# Altium schematic symbol library STL.SchLib: 124 symbols (part 2 of 4)
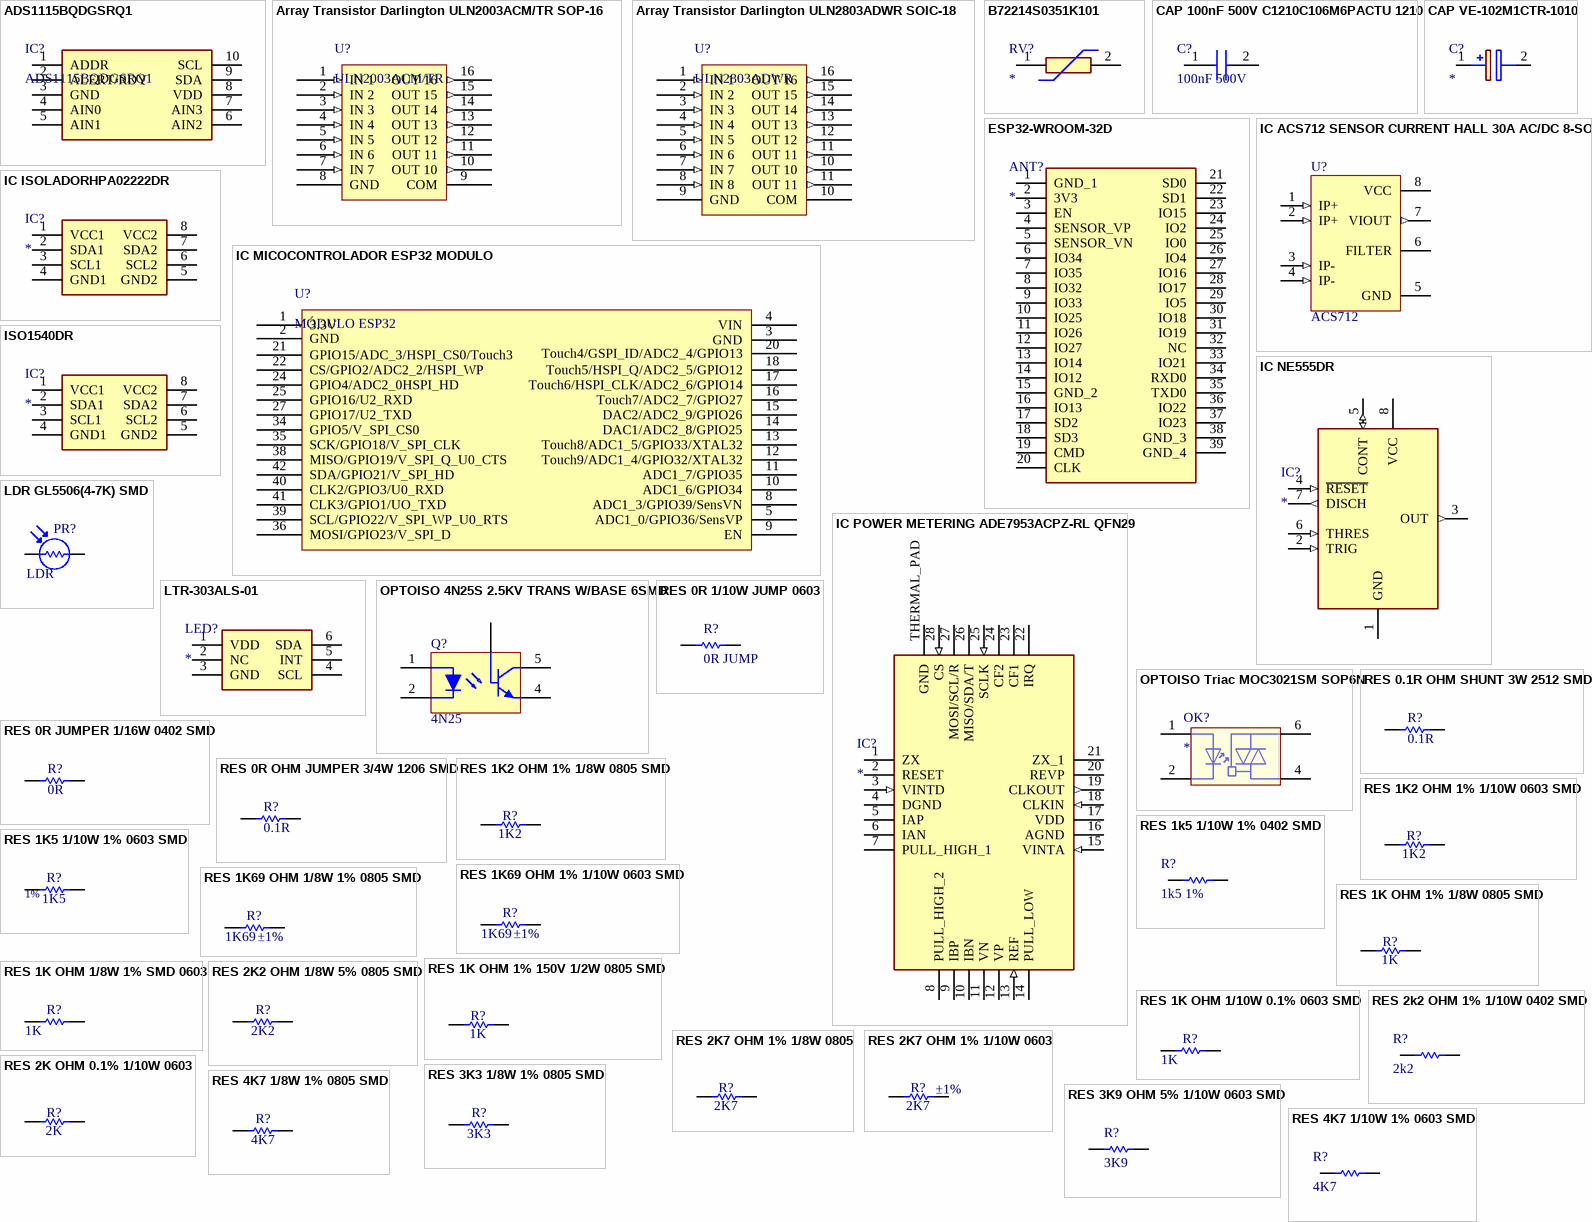
[diagram p4: symbols ADS1115BQDGSRQ1 to RES 4K7 1/10W 1% 0603 SMD]

## RES 4K7 1/8W 1% 0805 SMD
designator R?, comment 4K7
RES SMD 4.7K OHM 1% 1/8W 0805; Manufacturer: Stackpole Electronics Inc.; Manufacturer Part Number: RMCF0805FT4K70; Power (Watts): 0.125W, 1/8W; Temperature Coefficient: ±100ppm/°C; Supplier 1: Digi-Key; RoHS: RoHS Compliant; Category: Resistors; Stock 1: 62180; Pricing 1: 1=0.1, 10=0.023, 50=0.0128, 100=0.0095, 250=0.00724, 500=0.00578, 1000=0.00426, 2500=0.00369 (USD); Packaging: Cut Tape (CT); Part Status: Active; Resistance (Ohms): 4.7k; Tolerance: ±1%; Composition: Thick Film; Features: Automotive AEC-Q200; Operating Temperature: -55°C ~ 155°C; Package / Case: 0805 (2012 Metric); Supplier Device Package: 0805; Size / Dimension: 0.079" L x 0.049" W (2.00mm x 1.25mm); Height: 0.026" (0.65mm); Number of Terminations: 2; Failure Rate: -; ComponentLink1URL: https://www.seielect.com/Catalog/SEI-RMCF_RMCP.pdf; ComponentLink1Description: https://www.seielect.com/Catalog/SEI-RMCF_RMCP.pdf; Supplier Part Number 1: RMCF0805FT4K70CT-ND
footprint CR2012-0805 (Chip Capacitor)
pins: 1, 2

## RES 4K7 1/10W 1% 0603 SMD
designator R?, comment 4K7
RES 4.7K OHM 1/10W 1% 0603 SMD; Manufacturer: Stackpole Electronics Inc; Part#: RMCF0603FT4K70; eVendor: Digi-Key; eVendorPrice: 0,04; eVendor#: RMCF0603FT4K70CT-ND; MSRP: 0,00324; Datasheet: http://www.seielect.com/Catalog/SEI-RMCF_RMCP.pdf; MOQ: 2500
footprint CR1608-0603 (Chip Resistor; Body 1.6 x 0.8 mm (LxW typ))
pins: 1, 2

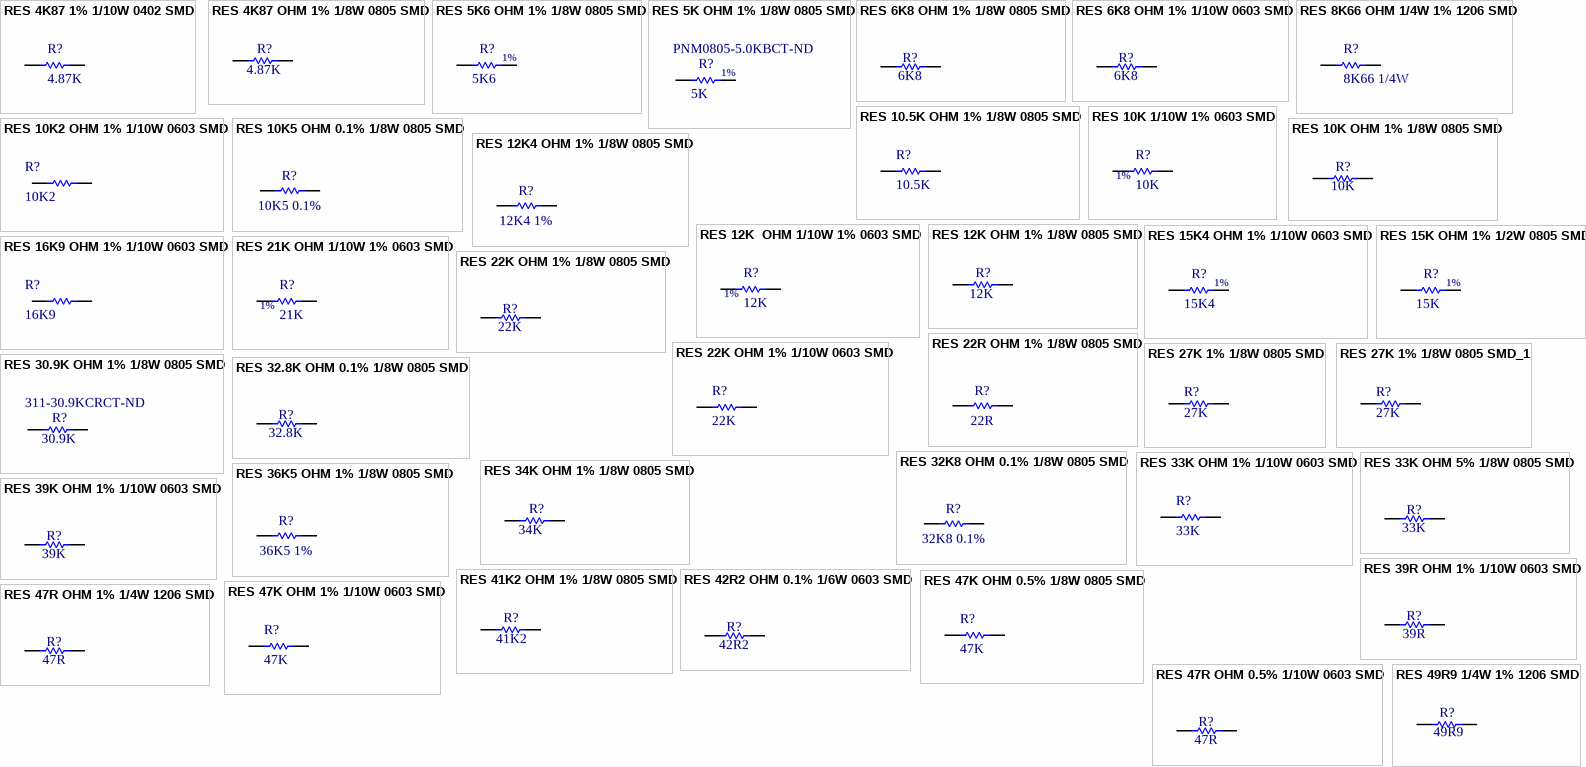
[diagram p1: symbols RES 4K87 1% 1/10W 0402 SMD to RES 49R9 1/4W 1% 1206 SMD]

## RES 4K87 1% 1/10W 0402 SMD
designator R?, comment 4.87K
RES SMD 4.87K OHM 1% 1/10W 0402; Manufacturer: Panasonic Electronic Components; Part#: ERJ-2RKF4871X; eVendor: Digi-Key; eVendorPrice: 0,10; eVendor#: P4.87KLCT-ND; MSRP: 0,00383; Datasheet: http://industrial.panasonic.com/www-cgi/jvcr13pz.cgi?E+PZ+3+AOA0002+ERJ2RKF4871X+7+WW; MOQ: 5000
footprint CR1005-0402
pins: 1, 2

## RES 4K87 OHM 1% 1/8W 0805 SMD
designator R?, comment 4.87K
RES SMD 4.87K OHM 1% 1/8W 0805; Manufacturer: Yageo; Manufacturer Part Number: RC0805FR-074K87L; Power (Watts): 0.125W, 1/8W; Temperature Coefficient: ±100ppm/°C; Supplier 1: Digi-Key; RoHS: RoHS Compliant; Category: Resistors; Stock 1: 190260; Pricing 1: 1=0.1, 10=0.019, 25=0.0136, 50=0.0104, 100=0.0077, 250=0.00584, 500=0.00468, 1000=0.00345 (USD); Packaging: Cut Tape (CT); Part Status: Active; Resistance (Ohms): 4.87k; Tolerance: ±1%; Composition: Thick Film; Features: Moisture Resistant; Operating Temperature: -55°C ~ 155°C; Package / Case: 0805 (2012 Metric); Supplier Device Package: 0805; Size / Dimension: 0.079" L x 0.049" W (2.00mm x 1.25mm); Height - Seated (Max): 0.024" (0.60mm); Number of Terminations: 2; Failure Rate: -; ComponentLink1URL: http://www.yageo.com/documents/recent/PYu-RC_Group_51_RoHS_L_6.pdf; ComponentLink1Description: http://www.yageo.com/documents/recent/PYu-RC_Group_51_RoHS_L_6.pdf; Supplier Part Number 1: 311-4.87KCRCT-ND
footprint CR2012-0805 (Chip Capacitor)
pins: 1, 2

## RES 5K6 OHM 1% 1/8W 0805 SMD
designator R?, comment 5K6
SMD CRG0805 1% 5K6; Manufacturer: TE Connectivity; Manufacturer Part Number: CRG0805F5K6; Resistance: 5.6kR; Temperature Coefficient: 100ppm/°C; Power Rating: 125mW; Number of Resistors: 1; Voltage Rating: 150V; Supplier 1: Digi-Key; RoHS: Yes; Category: Chip SMD Resistors; Stock 1: 27945; Pricing 1: 1=0,10000, 10=0,04900, 100=0,02000, 1000=0,00898, 2500=0,00780 (USD); Mount: Surface Mount; Case/Package: 0805; Case Code (Imperial): 0805; Case Code (Metric): 2012; Min Operating Temperature: -55°C; Max Operating Temperature: 125°C; Tolerance: 1%; Number of Terminations: 2; Packaging: Tape and Reel; Composition: Thick Film; Termination: Solder; Length: 2mm; Height: 0.55mm; Depth: 1.25mm; Width: 1.25mm; Radiation Hardening: No; ELV: Compliant; ComponentLink1URL: https://datasheet.ciiva.com/11809/0900766b800a696e-11809932.pdf?src-supplier=RSComponents; ComponentLink1Description: https://datasheet.ciiva.com/11809/0900766b800a696e-11809932.pdf?src-supplier=RSComponents; ComponentLink2URL: https://datasheet.ciiva.com/12563/eng-ds-1773204-g-12563327.pdf?src-supplier=Mouser; ComponentLink2Description: https://datasheet.ciiva.com/12563/eng-ds-1773204-g-12563327.pdf?src-supplier=Mouser; Supplier Part Number 1: A126380CT-ND
footprint CR2012-0805 (Chip Capacitor)
pins: 1, 2

## RES 5K OHM 1% 1/8W 0805 SMD
designator R?, comment 5K  Supplier Part Number 1: PNM0805-5.0KBCT-ND
RES SMD 5K OHM 0.01% 1/5W 0805; Manufacturer: Vishay Dale; Manufacturer Part Number: CRCW08055K00FKTA; Max Power Dissipation: 125mW; Voltage Rating (DC): 150V; Temperature Coefficient: 100ppm/°C; Resistance: 5kR; Tolerance: 1%; RoHS: Yes; Category: Chip SMD Resistors; Stock 1: 6926; Pricing 1: 1=0,14000, 10=0,12900, 100=0,04960, 1000=0,02182, 2500=0,01885 (USD); Case/Package: 0805; Number of Pins: 2; Weight: 0.000194oz; Contact Plating: Tin,Lead; Case Code (Imperial): 0805; Case Code (Metric): 2012; Min Operating Temperature: -55°C; Max Operating Temperature: 155°C; Features: Automotive AEC-Q200; Composition: Thick Film; Termination: SMD/SMT; Number of Terminations: 2; Power Rating: 125mW; Voltage Rating: 150V; Packaging: Tape and Reel; Package Quantity: 5000; Length: 0.079inch; Height: 0.02inch; Width: 1.25mm; REACH SVHC: Unknown; Lead Free: Contains Lead; ComponentLink1URL: https://datasheet.ciiva.com/7112/1747955-7112385.pdf?src-supplier=Newark; ComponentLink1Description: https://datasheet.ciiva.com/7112/1747955-7112385.pdf?src-supplier=Newark; ComponentLink2URL: https://datasheet.ciiva.com/9069/dcrcw-9069004.pdf?src-supplier=Avnet; ComponentLink2Description: https://datasheet.ciiva.com/9069/dcrcw-9069004.pdf?src-supplier=Avnet; ComponentLink3URL: https://datasheet.ciiva.com/28561/1747955-28561708.pdf?src-supplier=Element14; ComponentLink3Description: https://datasheet.ciiva.com/28561/1747955-28561708.pdf?src-supplier=Element14; Pricing 2: 1=27,09000, 10=23,66500 (USD); Stock 2: 174; ComponentLink4URL: https://datasheet.ciiva.com/2505/frsm-2505424.pdf?src-supplier=Digi-Key; ComponentLink4Description: https://datasheet.ciiva.com/2505/frsm-2505424.pdf?src-supplier=Digi-Key; Stock 3: 7440; Pricing 3: 1=2,63000, 10=2,32900, 100=1,77870 (USD); Radiation Hardening: No; ComponentLink5URL: https://datasheet.ciiva.com/22692/886349-22692838.pdf?src-supplier=Element14; ComponentLink5Description: https://datasheet.ciiva.com/22692/886349-22692838.pdf?src-supplier=Element14; ComponentLink6URL: https://datasheet.ciiva.com/7984/886349-7984655.pdf?src-supplier=Element14; ComponentLink6Description: https://datasheet.ciiva.com/7984/886349-7984655.pdf?src-supplier=Element14; Supplier 1: Digi-Key
footprint CR2012-0805 (Chip Capacitor)
pins: 1, 2

## RES 6K8 OHM 1% 1/8W 0805 SMD
designator R?, comment 6K8
RES SMD 6K8 OHM 1% 1/8W 0805; Manufacturer: Yageo Phycomp; Manufacturer Part Number: RC0805FR-076K8L; Temperature Coefficient: 100ppm/°C; Resistance: 6.8kR; Power Rating: 125mW; Voltage Rating (DC): 150V; ComponentLink1URL: https://www.seielect.com/Catalog/SEI-RMCF_RMCP.pdf; ComponentLink1Description: https://www.seielect.com/Catalog/SEI-RMCF_RMCP.pdf; Supplier 1: Digi-Key; RoHS: Yes; Category: Chip SMD Resistors; Stock 1: 3961465; Pricing 1: 1=0,10000, 10=0,04000, 100=0,01630, 1000=0,00731, 2500=0,00635 (USD); Mount: Surface Mount; Case/Package: 0805; Number of Pins: 2; Min Operating Temperature: -55°C; Max Operating Temperature: 155°C; Tolerance: 1%; Packaging: Cut Tape; Number of Terminations: 2; Working Voltage: 150V; Length: 2mm; Height: 0.5mm; Width: 1.25mm; Depth: 1.25mm; REACH SVHC: No SVHC; Lead Free: Lead Free; ComponentLink2URL: http://www.mouser.com/ds/2/447/Yageo_08112016_RC0805-968729.pdf?src-supplier=Mouser; ComponentLink2Description: http://www.mouser.com/ds/2/447/Yageo_08112016_RC0805-968729.pdf?src-supplier=Mouser; ComponentLink3URL: http://www.farnell.com/datasheets/2167052.pdf?src-supplier=Farnell; ComponentLink3Description: http://www.farnell.com/datasheets/2167052.pdf?src-supplier=Farnell; ComponentLink4URL: http://www.yageo.com/documents/recent/PYu-RC_Group_51_RoHS_L_9.pdf?src-supplier=Digi-Key; ComponentLink4Description: http://www.yageo.com/documents/recent/PYu-RC_Group_51_RoHS_L_9.pdf?src-supplier=Digi-Key; ComponentLink5URL: http://www.yageo.com/documents/recent/PYu-RC_Group_51_RoHS_L_10.pdf?src-supplier=Digi-Key; ComponentLink5Description: http://www.yageo.com/documents/recent/PYu-RC_Group_51_RoHS_L_10.pdf?src-supplier=Digi-Key; Supplier Part Number 1: 311-6.80KCRCT-ND
footprint CR2012-0805 (Chip Capacitor)
pins: 1, 2

## RES 6K8 OHM 1% 1/10W 0603 SMD
designator R?, comment 6K8
RES SMD 6.8K OHM 1% 1/10W 0603; Manufacturer: Stackpole Electronics Inc.; Manufacturer Part Number: RMCF0603FT6K80; Power (Watts): 0.1W, 1/10W; Temperature Coefficient: ±100ppm/°C; Supplier 1: Digi-Key; RoHS: RoHS Compliant; Category: Resistors; Stock 1: 95405; Pricing 1: 1=0.1, 10=0.018, 25=0.0132, 50=0.01, 100=0.0074, 250=0.00564, 500=0.0045, 1000=0.00331 (USD); Packaging: Cut Tape (CT); Part Status: Active; Resistance (Ohms): 6.8k; Tolerance: ±1%; Composition: Thick Film; Features: Automotive AEC-Q200; Operating Temperature: -55°C ~ 155°C; Package / Case: 0603 (1608 Metric); Supplier Device Package: 0603; Size / Dimension: 0.061" L x 0.031" W (1.55mm x 0.80mm); Height - Seated (Max): 0.022" (0.55mm); Number of Terminations: 2; Failure Rate: -; ComponentLink1URL: https://www.seielect.com/Catalog/SEI-RMCF_RMCP.pdf; ComponentLink1Description: https://www.seielect.com/Catalog/SEI-RMCF_RMCP.pdf; Supplier Part Number 1: RMCF0603FT6K80CT-ND
footprint CR1608-0603 (Chip Resistor; Body 1.6 x 0.8 mm (LxW typ))
pins: 1, 2

## RES 8K66 OHM 1/4W 1% 1206 SMD
designator R?, comment 8K66 1/4W
RES 8.66K OHM 1/4W 1% 1206 SMD; Manufacturer: Yageo; Part#: RC1206FR-078K66L; eVendor: Digi-Key; eVendorPrice: 0,10; eVendor#: 311-8.66KFRCT-ND; MSRP: 0,00514; Datasheet: http://www.yageo.com/documents/recent/PYu-RC1206_51_RoHS_L-4.pdf; MOQ: 2500
footprint CR3216-1206 (Chip Capacitor; Body 3.2 x 1.6 mm (LxW typ))
pins: 1, 2

## RES 10.5K OHM 1% 1/8W 0805 SMD
designator R?, comment 10.5K
RES SMD 10.5K OHM 1% 1/8W 0805; Manufacturer: Panasonic; Manufacturer Part Number: ERJ-6ENF1052V; Resistance: 10.5kR; Power Rating: 125mW; Voltage Rating: 150V; Temperature Coefficient: 100ppm/°C; Supplier 1: Digi-Key; RoHS: Yes; Category: Chip SMD Resistors; Stock 1: 54240; Pricing 1: 1=0,10000, 10=0,07200, 100=0,02750, 1000=0,01210, 2500=0,01045 (USD); Mount: Surface Mount; Case/Package: 0805; Case Code (Metric): 2012; Case Code (Imperial): 0805; Contact Plating: Tin; Min Operating Temperature: -55°C; Max Operating Temperature: 155°C; Tolerance: 1%; Package Quantity: 5000; Packaging: Tape and Reel; Voltage Rating (DC): 150V; Features: Automotive AEC-Q200; Composition: Thick Film; Number of Terminations: 2; Military Standard: Not; Max Power Dissipation: 125mW; Termination: SMD/SMT; Length: 2mm; Height: 0.6mm; Width: 0.049inch; Depth: 1.25mm; Height - Seated (Max): 0.028inch; Lead Free: Lead Free; REACH SVHC: No SVHC; ComponentLink1URL: https://datasheet.ciiva.com/11821/0900766b80f80784-11821503.pdf?src-supplier=RSComponents; ComponentLink1Description: https://datasheet.ciiva.com/11821/0900766b80f80784-11821503.pdf?src-supplier=RSComponents; ComponentLink2URL: https://datasheet.ciiva.com/16759/70260748-16759239.pdf?src-supplier=Allied+Electronics; ComponentLink2Description: https://datasheet.ciiva.com/16759/70260748-16759239.pdf?src-supplier=Allied+Electronics; ComponentLink3URL: https://datasheet.ciiva.com/16767/70260748-16767017.pdf?src-supplier=Allied+Electronics; ComponentLink3Description: https://datasheet.ciiva.com/16767/70260748-16767017.pdf?src-supplier=Allied+Electronics; ComponentLink4URL: https://datasheet.ciiva.com/30137/aoa0000ce2-30137207.pdf?src-supplier=Onlinecomponents.com; ComponentLink4Description: https://datasheet.ciiva.com/30137/aoa0000ce2-30137207.pdf?src-supplier=Onlinecomponents.com; ComponentLink5URL: https://datasheet.ciiva.com/9194/aoa0000ce2-9194056.pdf?src-supplier=Avnet; ComponentLink5Description: https://datasheet.ciiva.com/9194/aoa0000ce2-9194056.pdf?src-supplier=Avnet; ComponentLink6URL: https://datasheet.ciiva.com/24069/aoa0000ce2-24069034.pdf?src-supplier=Mouser; ComponentLink6Description: https://datasheet.ciiva.com/24069/aoa0000ce2-24069034.pdf?src-supplier=Mouser; ComponentLink7URL: https://datasheet.ciiva.com/46444/1678782-46444445.pdf?src-supplier=Element14; ComponentLink7Description: https://datasheet.ciiva.com/46444/1678782-46444445.pdf?src-supplier=Element14; ComponentLink8URL: https://datasheet.ciiva.com/7829/1678782-7829327.pdf?src-supplier=Element14; ComponentLink8Description: https://datasheet.ciiva.com/7829/1678782-7829327.pdf?src-supplier=Element14; Supplier Part Number 1: P10.5KCCT-ND
footprint CR2012-0805 (Chip Capacitor)
pins: 1, 2

## RES 10K2 OHM 1% 1/10W 0603 SMD
designator R?, comment 10K2
RES SMD 10.2K OHM 1% 1/10W 0603; Manufacturer: Yageo; Manufacturer Part Number: RC0603FR-0710K2L; Power (Watts): 0.1W, 1/10W; Temperature Coefficient: ±100ppm/°C; Supplier 1: Digi-Key; RoHS: RoHS Compliant; Category: Resistors; Stock 1: 111714; Pricing 1: 1=0.1, 10=0.014, 25=0.01, 100=0.0057, 250=0.00436, 500=0.00348, 1000=0.00257, 2500=0.00223 (USD); Packaging: Cut Tape (CT); Resistance (Ohms): 10.2k; Tolerance: ±1%; Composition: Thick Film; Features: Moisture Resistant; Operating Temperature: -55°C ~ 155°C; Package / Case: 0603 (1608 Metric); Supplier Device Package: 0603; Size / Dimension: 0.063" L x 0.031" W (1.60mm x 0.80mm); Height: 0.022" (0.55mm); Number of Terminations: 2; ComponentLink1URL: http://www.yageo.com/documents/recent/PYu-RC_Group_51_RoHS_L_04.pdf; ComponentLink1Description: http://www.yageo.com/documents/recent/PYu-RC_Group_51_RoHS_L_04.pdf; Supplier Part Number 1: 311-10.2KHRCT-ND
footprint CR1608-0603 (Chip Resistor; Body 1.6 x 0.8 mm (LxW typ))
pins: 1, 2

## RES 10K5 OHM 0.1% 1/8W 0805 SMD
designator R?, comment 10K5 0.1%
RES SMD 10.5K OHM 0.1% 1/8W 0805; Manufacturer: Panasonic Electronic Components; Manufacturer Part Number: ERA-6AEB1052V; Power (Watts): 0.125W, 1/8W; Temperature Coefficient: ±25ppm/°C; Supplier 1: Digi-Key; RoHS: RoHS Compliant; Category: Resistors; Stock 1: 1614; Pricing 1: 1=0.63, 50=0.2494, 100=0.1924, 250=0.14964, 500=0.10546, 1000=0.07695 (USD); Packaging: Cut Tape (CT); Part Status: Active; Resistance (Ohms): 10.5k; Tolerance: ±0.1%; Composition: Thin Film; Features: Automotive AEC-Q200; Operating Temperature: -55°C ~ 155°C; Package / Case: 0805 (2012 Metric); Supplier Device Package: 0805; Size / Dimension: 0.079" L x 0.049" W (2.00mm x 1.25mm); Height: 0.024" (0.60mm); Number of Terminations: 2; ComponentLink1URL: http://media.digikey.com/pdf/Data%20Sheets/Panasonic%20Electronic%20Components/ERA%201A,2A,3A,6A,8A.pdf; ComponentLink1Description: http://media.digikey.com/pdf/Data%20Sheets/Panasonic%20Electronic%20Components/ERA%201A,2A,3A,6A,8A.pdf; Supplier Part Number 1: P10.5KDACT-ND
footprint CR2012-0805 (Chip Capacitor)
pins: 1, 2

## RES 10K 1/10W 1% 0603 SMD
designator R?, comment 10K
RES 10K OHM 1/10W 1% 0603 SMD; Manufacturer: Yageo; Manufacturer Part Number: RC0603FR-0710KL; Power (Watts): 0.1W, 1/10W; Temperature Coefficient: ±100ppm/°C; RoHS: RoHS Compliant; Category: Resistors; Stock 1: 17789030; Pricing 1: 1=0.1, 10=0.013, 25=0.0092, 50=0.007, 100=0.0052, 250=0.00396, 500=0.00316, 1000=0.00233 (USD); Packaging: Cut Tape (CT); Part Status: Active; Resistance (Ohms): 10k; Tolerance: ±1%; Composition: Thick Film; Features: Moisture Resistant; Operating Temperature: -55°C ~ 155°C; Package / Case: 0603 (1608 Metric); Supplier Device Package: 0603; Size / Dimension: 0.063" L x 0.031" W (1.60mm x 0.80mm); Height - Seated (Max): 0.022" (0.55mm); Failure Rate: -; ComponentLink1URL: http://www.yageo.com/documents/recent/PYu-RC_Group_51_RoHS_L_7.pdf; ComponentLink1Description: http://www.yageo.com/documents/recent/PYu-RC_Group_51_RoHS_L_7.pdf; Supplier 1: Digi-Key; Supplier 2: LCSC; Supplier Part Number 1: 311-10.0KHRCT-ND; Supplier Part Number 2: C25804
footprint CR1608-0603 (Footprint not found)
pins: 1, 2
text: 1%

## RES 10K OHM 1% 1/8W 0805 SMD
designator R?, comment 10K
RES 0805 10K Ohm 0.1% 1/10W  SMD; Manufacturer: Panasonic Electronic Components; Manufacturer Part Number: ERJ-6ENF1002V; Tolerance: ±1%; Power (Watts): 0.125W, 1/8W; Temperature Coefficient: ±100ppm/°C; Resistance: 10kR; Power Rating: 100mW; Voltage Rating (DC): 150V; Max Power Dissipation: 125mW; Number of Resistors: 1; RoHS: RoHS Compliant; Category: Resistors; Stock 1: 2392770; Pricing 1: 1=0.1, 10=0.036, 25=0.0264, 50=0.02, 100=0.0148, 250=0.01124, 500=0.009, 1000=0.00663 (USD); Packaging: Cut Tape (CT); Part Status: Active; Resistance (Ohms): 10k; Composition: Thick Film; Features: Automotive AEC-Q200; Operating Temperature: -55°C ~ 155°C; Package / Case: 0805 (2012 Metric); Supplier Device Package: 0805; Size / Dimension: 0.079" L x 0.049" W (2.00mm x 1.25mm); Height - Seated (Max): 0.028" (0.70mm); Number of Terminations: 2; Failure Rate: -; ComponentLink1URL: https://industrial.panasonic.com/cdbs/www-data/pdf/RDA0000/AOA0000C283.pdf; ComponentLink1Description: https://industrial.panasonic.com/cdbs/www-data/pdf/RDA0000/AOA0000C283.pdf; Stock 2: 1650; Pricing 2: 1=1,68000, 10=1,48900, 100=1,13720, 1000=0,73645 (USD); Mount: Surface Mount; Case/Package: 0805; Number of Pins: 2; Case Code (Metric): 2012; Case Code (Imperial): 0805; Contact Plating: Tin; Min Operating Temperature: -55°C; Max Operating Temperature: 155°C; Voltage Rating: 150V; Package Quantity: 5000; Termination: SMD/SMT; Military Standard: Not; Working Voltage: 150V; Length: 2mm; Height: 0.6mm; Width: 0.049inch; Depth: 1.25mm; Radiation Hardening: No; REACH SVHC: No SVHC; Lead Free: Lead Free; ComponentLink2URL: https://datasheet.ciiva.com/11808/0900766b80f80784-11808080.pdf?src-supplier=RSComponents; ComponentLink2Description: https://datasheet.ciiva.com/11808/0900766b80f80784-11808080.pdf?src-supplier=RSComponents; ComponentLink3URL: https://datasheet.ciiva.com/16514/aoa0000ce2-16514021.pdf?src-supplier=Avnet+Asia; ComponentLink3Description: https://datasheet.ciiva.com/16514/aoa0000ce2-16514021.pdf?src-supplier=Avnet+Asia; ComponentLink4URL: https://datasheet.ciiva.com/27055/1988971-27055733.pdf?src-supplier=Jameco; ComponentLink4Description: https://datasheet.ciiva.com/27055/1988971-27055733.pdf?src-supplier=Jameco; ComponentLink5URL: https://datasheet.ciiva.com/16759/70260748-16759350.pdf?src-supplier=Allied+Electronics; ComponentLink5Description: https://datasheet.ciiva.com/16759/70260748-16759350.pdf?src-supplier=Allied+Electronics; ComponentLink6URL: https://datasheet.ciiva.com/16725/70260748-16725031.pdf?src-supplier=Allied+Electronics; ComponentLink6Description: https://datasheet.ciiva.com/16725/70260748-16725031.pdf?src-supplier=Allied+Electronics; ComponentLink7URL: https://datasheet.ciiva.com/46372/1678782-46372714.pdf?src-supplier=Element14; ComponentLink7Description: https://datasheet.ciiva.com/46372/1678782-46372714.pdf?src-supplier=Element14; ComponentLink8URL: https://datasheet.ciiva.com/46372/1678782-46372715.pdf?src-supplier=Element14; ComponentLink8Description: https://datasheet.ciiva.com/46372/1678782-46372715.pdf?src-supplier=Element14; ComponentLink9URL: https://datasheet.ciiva.com/7830/426256-7830745.pdf?src-supplier=Element14; ComponentLink9Description: https://datasheet.ciiva.com/7830/426256-7830745.pdf?src-supplier=Element14; ComponentLink10URL: https://datasheet.ciiva.com/17212/aoa0000ce2-17212108.pdf?src-supplier=Avnet+Europe; ComponentLink10Description: https://datasheet.ciiva.com/17212/aoa0000ce2-17212108.pdf?src-supplier=Avnet+Europe; ComponentLink11URL: https://datasheet.ciiva.com/30140/aoa0000ce2-30140236.pdf?src-supplier=Onlinecomponents.com; ComponentLink11Description: https://datasheet.ciiva.com/30140/aoa0000ce2-30140236.pdf?src-supplier=Onlinecomponents.com; ComponentLink12URL: https://datasheet.ciiva.com/24070/aoa0000ce2-24070702.pdf?src-supplier=Mouser; ComponentLink12Description: https://datasheet.ciiva.com/24070/aoa0000ce2-24070702.pdf?src-supplier=Mouser; ELV: Compliant; ComponentLink13URL: https://datasheet.ciiva.com/16723/70063741-16723029.pdf?src-supplier=Allied+Electronics; ComponentLink13Description: https://datasheet.ciiva.com/16723/70063741-16723029.pdf?src-supplier=Allied+Electronics; ComponentLink14URL: https://datasheet.ciiva.com/24440/eng-ds-1773270-l-24440188.pdf?src-supplier=Onlinecomponents.com; ComponentLink14Description: https://datasheet.ciiva.com/24440/eng-ds-1773270-l-24440188.pdf?src-supplier=Onlinecomponents.com; ComponentLink15URL: https://datasheet.ciiva.com/7731/eng-ds-1773270-l-7731311.pdf?src-supplier=Element14; ComponentLink15Description: https://datasheet.ciiva.com/7731/eng-ds-1773270-l-7731311.pdf?src-supplier=Element14; ComponentLink16URL: https://datasheet.ciiva.com/14181/jcrn73-data-e-14181423.pdf?src-supplier=Distrelec; ComponentLink16Description: https://datasheet.ciiva.com/14181/jcrn73-data-e-14181423.pdf?src-supplier=Distrelec; Supplier 1: Digi-Key; Supplier Part Number 1: A105823-ND; Supplier 2: Digi-Key; Supplier Part Number 2: P10KACT-ND; Resistance Tolerance: 0.1%; Resistor Type: Thin Film; Supplier 3: LCSC; Supplier Part Number 3: C17414
footprint CR2012-0805 (Chip Capacitor)
pins: 1, 2

## RES 12K4 OHM 1% 1/8W 0805 SMD
designator R?, comment 12K4 1%
RES SMD 12.4K OHM 1% 1/8W 0805; Manufacturer: Panasonic Electronic Components; Manufacturer Part Number: ERJ-6ENF1242V; Power (Watts): 0.125W, 1/8W; Temperature Coefficient: ±100ppm/°C; Supplier 1: Digi-Key; RoHS: RoHS Compliant; Category: Resistors; Stock 1: 55334; Pricing 1: 1=0.1, 50=0.022, 100=0.0162, 250=0.01236, 500=0.0099, 1000=0.00729 (USD); Packaging: Cut Tape (CT); Resistance (Ohms): 12.4k; Composition: Thick Film; Features: Automotive AEC-Q200; Operating Temperature: -55°C ~ 155°C; Package / Case: 0805 (2012 Metric); Supplier Device Package: 0805; Size / Dimension: 0.079" L x 0.049" W (2.00mm x 1.25mm); Height: 0.028" (0.70mm); Number of Terminations: 2; ComponentLink1URL: http://industrial.panasonic.com/www-cgi/jvcr13pz.cgi?E+PZ+3+AOA0002+ERJ6ENF1242V+7+WW; ComponentLink1Description: http://industrial.panasonic.com/www-cgi/jvcr13pz.cgi?E+PZ+3+AOA0002+ERJ6ENF1242V+7+WW; Supplier Part Number 1: P12.4KCCT-ND; Tolerance: ±1%
footprint CR2012-0805 (Chip Capacitor)
pins: 1, 2

## RES 12K  OHM 1/10W 1% 0603 SMD
designator R?, comment 12K
Resistor;  Thick Film;  Res 12 Kilohms;  Pwr-Rtg 0.1 W;  Tol 5%;  SMT;  0603;  Cut Tape; Manufacturer: Uniroyal; Manufacturer Part Number: 0603WAF1202T5E; Resistance: 12kR; Temperature Coefficient: 200ppm/°C; Power Rating: 100mW; Voltage Rating: 75V; Voltage Rating (DC): 50V; ComponentLink1URL: http://www.yageo.com/documents/recent/PYu-RC_Group_51_RoHS_L_7.pdf; ComponentLink1Description: http://www.yageo.com/documents/recent/PYu-RC_Group_51_RoHS_L_7.pdf; RoHS: No; Category: Chip SMD Resistors; Stock 2: 3400; Pricing 2: 50=0,00790, 500=0,00590, 1500=0,00560, 5000=0,00520, 25000=0,00510, 50000=0,00500, 50=0,00760, 500=0,00570, 1500=0,00540, 5000=0,00500, 25000=0,00490, 50000=0,00480, 50=0,03920, 500=0,02940, 1500=0,02810, 5000=0,02620, 25000=0,02550, 50000=0,02490, 50=0,03780, 500=0,02840, 1500=0,02710, 5000=0,02520, 25000=0,02460, 50000=0,02400, 50=0,00510, 500=0,00380, 1500=0,00360, 5000=0,00340, 25000=0,00330, 50000=0,00320, 50=0,00440, 500=0,00330, 1500=0,00310, 5000=0,00290, 25000=0,00280, 50000=0,00280, 50=0,04660, 500=0,03500, 1500=0,03340, 5000=0,03110, 25000=0,03030, 50000=0,02950, 50=0,65770, 500=0,49330, 1500=0,47130, 5000=0,43850, 25000=0,42750, 50000=0,41650, 50=0,02490, 500=0,01870, 1500=0,01780, 5000=0,01660, 25000=0,01620, 50000=0,01580, 50=0,45610, 500=0,34210, 1500=0,32690, 5000=0,30410, 25000=0,29650, 50000=0,28890, 50=0,05180, 500=0,03890, 1500=0,03720, 5000=0,03460, 25000=0,03370, 50000=0,03280, 50=0,00810, 500=0,00610, 1500=0,00580, 5000=0,00540, 25000=0,00520, 50000=0,00510, 50=0,00600, 500=0,00450, 1500=0,00430, 5000=0,00400, 25000=0,00390, 50000=0,00380 (AUD); Mount: Surface Mount; Case/Package: 0603; Case Code (Imperial): 0603; Case Code (Metric): 1608; Contact Plating: Tin; Weight: 0.0018lb; Size Code: 0603; Min Operating Temperature: -55°C; Max Operating Temperature: 155°C; Packaging: Tape and Reel; Resistor Type: Thick Film; Series: ERJ; Tolerance: 5%; Number of Terminations: 2; Max Power Dissipation: 100mW; Package Quantity: 1; Termination: SMD/SMT; Features: Automotive AEC-Q200; Construction: Rectangular; Resistance Tolerance: 5%; Technology: THICK FILM; Length: 1.6mm; Width: 0.8mm; Height: 0.45mm; Depth: 0.8mm; Radiation Hardening: No; RoHS Compliant: Yes; Lead Free: Lead Free; Military Standard: Not; REACH SVHC: No SVHC; ComponentLink2URL: https://datasheet.ciiva.com/34303/1988532-34303610.pdf?src-supplier=Jameco; ComponentLink2Description: https://datasheet.ciiva.com/34303/1988532-34303610.pdf?src-supplier=Jameco; ComponentLink3URL: https://datasheet.ciiva.com/11821/0900766b80f806dd-11821411.pdf?src-supplier=RSComponents; ComponentLink3Description: https://datasheet.ciiva.com/11821/0900766b80f806dd-11821411.pdf?src-supplier=RSComponents; ComponentLink4URL: https://datasheet.ciiva.com/9117/aoa0000ce1-9117062.pdf?src-supplier=Avnet; ComponentLink4Description: https://datasheet.ciiva.com/9117/aoa0000ce1-9117062.pdf?src-supplier=Avnet; ComponentLink5URL: https://datasheet.ciiva.com/16514/aoa0000ce1-16514215.pdf?src-supplier=Avnet+Asia; ComponentLink5Description: https://datasheet.ciiva.com/16514/aoa0000ce1-16514215.pdf?src-supplier=Avnet+Asia; ComponentLink6URL: https://datasheet.ciiva.com/24023/aoa0000ce1-37422-24023237.pdf?src-supplier=Mouser; ComponentLink6Description: https://datasheet.ciiva.com/24023/aoa0000ce1-37422-24023237.pdf?src-supplier=Mouser; ComponentLink7URL: https://datasheet.ciiva.com/30265/4aoa0000ce1-30265398.pdf?src-supplier=Onlinecomponents.com; ComponentLink7Description: https://datasheet.ciiva.com/30265/4aoa0000ce1-30265398.pdf?src-supplier=Onlinecomponents.com; ComponentLink8URL: https://datasheet.ciiva.com/17211/aoa0000ce1-17211800.pdf?src-supplier=Avnet+Europe; ComponentLink8Description: https://datasheet.ciiva.com/17211/aoa0000ce1-17211800.pdf?src-supplier=Avnet+Europe; ComponentLink9URL: https://datasheet.ciiva.com/16437/aoa0000ce1-16437817.pdf?src-supplier=Future+Electronics; ComponentLink9Description: https://datasheet.ciiva.com/16437/aoa0000ce1-16437817.pdf?src-supplier=Future+Electronics; ComponentLink10URL: https://datasheet.ciiva.com/28590/1678796-28590971.pdf?src-supplier=Element14; ComponentLink10Description: https://datasheet.ciiva.com/28590/1678796-28590971.pdf?src-supplier=Element14; ComponentLink11URL: https://datasheet.ciiva.com/16782/70255313-16782319.pdf?src-supplier=Allied+Electronics; ComponentLink11Description: https://datasheet.ciiva.com/16782/70255313-16782319.pdf?src-supplier=Allied+Electronics; ComponentLink12URL: https://datasheet.ciiva.com/16775/70255313-16775998.pdf?src-supplier=Allied+Electronics; ComponentLink12Description: https://datasheet.ciiva.com/16775/70255313-16775998.pdf?src-supplier=Allied+Electronics; Supplier 1: LCSC; Supplier 2: LCSC; Supplier Part Number 2: C403421; Supplier Part Number 1: C22790
footprint CR1608-0603 (Chip Resistor; Body 1.6 x 0.8 mm (LxW typ))
pins: 1, 2
text: 1%

## RES 12K OHM 1% 1/8W 0805 SMD
designator R?, comment 12K
RES SMD 12K OHM 1% 1/8W 0805; Manufacturer: Panasonic Electronic Components; Manufacturer Part Number: ERJ-6ENF1202V; Power (Watts): 0.125W, 1/8W; Temperature Coefficient: ±100ppm/°C; Supplier 1: Digi-Key; RoHS: RoHS Compliant; Category: Resistors; Stock 1: 52615; Pricing 1: 1=0.1, 10=0.036, 25=0.0264, 50=0.02, 100=0.0148, 250=0.01124, 500=0.009, 1000=0.00663 (USD); Packaging: Cut Tape (CT); Part Status: Active; Resistance (Ohms): 12k; Tolerance: ±1%; Composition: Thick Film; Features: Automotive AEC-Q200; Operating Temperature: -55°C ~ 155°C; Package / Case: 0805 (2012 Metric); Supplier Device Package: 0805; Size / Dimension: 0.079" L x 0.049" W (2.00mm x 1.25mm); Height - Seated (Max): 0.028" (0.70mm); Number of Terminations: 2; Failure Rate: -; ComponentLink1URL: https://industrial.panasonic.com/cdbs/www-data/pdf/RDA0000/AOA0000C283.pdf; ComponentLink1Description: https://industrial.panasonic.com/cdbs/www-data/pdf/RDA0000/AOA0000C283.pdf; Supplier Part Number 1: P12.0KCCT-ND
footprint CR2012-0805 (Chip Capacitor)
pins: 1, 2

## RES 15K4 OHM 1% 1/10W 0603 SMD
designator R?, comment 15K4
RES SMD 15.4K OHM 1% 1/10W 0603; Manufacturer: Yageo; Manufacturer Part Number: RC0603FR-0715K4L; Power (Watts): 0.1W, 1/10W; Temperature Coefficient: ±100ppm/°C; Supplier 1: Digi-Key; RoHS: RoHS Compliant; Category: Resistors; Stock 1: 168640; Pricing 1: 1=0.1, 10=0.014, 25=0.01, 100=0.0057, 250=0.00436, 500=0.00348, 1000=0.00257, 2500=0.00223 (USD); Packaging: Cut Tape (CT); Part Status: Active; Resistance (Ohms): 15.4k; Tolerance: ±1%; Composition: Thick Film; Features: Moisture Resistant; Operating Temperature: -55°C ~ 155°C; Package / Case: 0603 (1608 Metric); Supplier Device Package: 0603; Size / Dimension: 0.063" L x 0.031" W (1.60mm x 0.80mm); Height: 0.022" (0.55mm); Number of Terminations: 2; ComponentLink1URL: http://www.yageo.com/documents/recent/PYu-RC_Group_51_RoHS_L_04.pdf; ComponentLink1Description: http://www.yageo.com/documents/recent/PYu-RC_Group_51_RoHS_L_04.pdf; Supplier Part Number 1: 311-15.4KHRCT-ND
footprint CR1608-0603 (Chip Resistor; Body 1.6 x 0.8 mm (LxW typ))
pins: 1, 2
text: 1%

## RES 15K OHM 1% 1/2W 0805 SMD
designator R?, comment 15K
RES SMD 15 kohm   1% 1/2W 0805; Manufacturer: Panasonic; Manufacturer Part Number: ERJ-P6WF1502V; Resistance: 15kR; Power Rating: 500mW; Voltage Rating: 150V; Temperature Coefficient: 200ppm/°C; ComponentLink1URL: http://www.yageo.com/documents/recent/PYu-RC_Group_51_RoHS_L_04.pdf; ComponentLink1Description: http://www.yageo.com/documents/recent/PYu-RC_Group_51_RoHS_L_04.pdf; Supplier 1: Digi-Key; RoHS: Yes; Category: Chip SMD Resistors; Stock 1: 4979; Pricing 1: 1=0,54000, 10=0,41200, 100=0,17310, 1000=0,09552, 2500=0,08955 (USD); Case/Package: 0805; Case Code (Metric): 2012; Case Code (Imperial): 0805; Contact Plating: Tin; Min Operating Temperature: -55°C; Max Operating Temperature: 155°C; Tolerance: 1%; Packaging: Cut Tape; Composition: Thick Film; Voltage Rating (DC): 150V; Termination: Flat; Number of Terminations: 2; Max Power Dissipation: 500mW; Features: Automotive AEC-Q200; Length: 0.079inch; Height: 0.03inch; Width: 0.049inch; Depth: 1.25mm; REACH SVHC: No SVHC; ComponentLink2URL: https://datasheet.ciiva.com/48525/erjp-series-eng-tds-48525477.pdf?src-supplier=Distrelec; ComponentLink2Description: https://datasheet.ciiva.com/48525/erjp-series-eng-tds-48525477.pdf?src-supplier=Distrelec; Supplier Part Number 1: P16899CT-ND
footprint CR2012-0805 (Chip Capacitor)
pins: 1, 2

## RES 16K9 OHM 1% 1/10W 0603 SMD
designator R?, comment 16K9
RES SMD 16.9K OHM 1% 1/10W 0603; Manufacturer: Yageo; Manufacturer Part Number: RC0603FR-0716K9L; Power (Watts): 0.1W, 1/10W; Temperature Coefficient: ±100ppm/°C; Supplier 1: Digi-Key; RoHS: RoHS Compliant; Category: Resistors; Stock 1: 52478; Pricing 1: 1=0.1, 10=0.014, 25=0.01, 100=0.0057, 250=0.00436, 500=0.00348, 1000=0.00257, 2500=0.00223 (USD); Packaging: Cut Tape (CT); Resistance (Ohms): 16.9k; Tolerance: ±1%; Composition: Thick Film; Features: Moisture Resistant; Operating Temperature: -55°C ~ 155°C; Package / Case: 0603 (1608 Metric); Supplier Device Package: 0603; Size / Dimension: 0.063" L x 0.031" W (1.60mm x 0.80mm); Height: 0.022" (0.55mm); Number of Terminations: 2; ComponentLink1URL: http://www.yageo.com/documents/recent/PYu-RC_Group_51_RoHS_L_04.pdf; ComponentLink1Description: http://www.yageo.com/documents/recent/PYu-RC_Group_51_RoHS_L_04.pdf; Supplier Part Number 1: 311-16.9KHRCT-ND
footprint CR1608-0603 (Chip Resistor; Body 1.6 x 0.8 mm (LxW typ))
pins: 1, 2

## RES 21K OHM 1/10W 1% 0603 SMD
designator R?, comment 21K
21K Ohm 1% 0.1W(1/10W)  SMD; Manufacturer: Bourns; Manufacturer Part Number: CR0603-FX-2102ELF; Resistance: 21kR; Temperature Coefficient: 100ppm/°C; Max Power Dissipation: 100mW; Voltage Rating: 50V; Supplier 1: LCSC; RoHS: Yes; Category: Chip SMD Resistors; Stock 1: 23550; Pricing 1: 50=0,00770, 500=0,00600, 1500=0,00580, 5000=0,00540, 25000=0,00520, 50000=0,00520, 50=0,00740, 500=0,00580, 1500=0,00550, 5000=0,00520, 25000=0,00500, 50000=0,00500, 50=0,03860, 500=0,03010, 1500=0,02880, 5000=0,02680, 25000=0,02620, 50000=0,02620, 50=0,03720, 500=0,02900, 1500=0,02770, 5000=0,02590, 25000=0,02520, 50000=0,02520, 50=0,00500, 500=0,00390, 1500=0,00370, 5000=0,00350, 25000=0,00340, 50000=0,00340, 50=0,00430, 500=0,00330, 1500=0,00320, 5000=0,00300, 25000=0,00290, 50000=0,00290, 50=0,04580, 500=0,03570, 1500=0,03420, 5000=0,03190, 25000=0,03110, 50000=0,03110, 50=0,64670, 500=0,50420, 1500=0,48230, 5000=0,44940, 25000=0,43850, 50000=0,43850, 50=0,02450, 500=0,01910, 1500=0,01820, 5000=0,01700, 25000=0,01660, 50000=0,01660, 50=0,44850, 500=0,34970, 1500=0,33450, 5000=0,31170, 25000=0,30410, 50000=0,30410, 50=0,05100, 500=0,03970, 1500=0,03800, 5000=0,03540, 25000=0,03460, 50000=0,03460, 50=0,00790, 500=0,00620, 1500=0,00590, 5000=0,00550, 25000=0,00540, 50000=0,00540, 50=0,00590, 500=0,00460, 1500=0,00440, 5000=0,00410, 25000=0,00400, 50000=0,00400 (AUD); Mount: Surface Mount; Case/Package: 0603; Case Code (Imperial): 0603; Case Code (Metric): 1608; Contact Plating: Tin; Min Operating Temperature: -55°C; Max Operating Temperature: 155°C; Tolerance: 1%; Packaging: Tape and Reel; Number of Terminations: 2; Resistor Type: Thick Film; Series: CR0603; Features: Moisture Resistant; Package Quantity: 5000; Power Rating: 100mW; Termination: SMD/SMT; Construction: Rectangular; Length: 1.6mm; Width: 0.8mm; Height: 0.022inch; Depth: 0.8mm; Thickness: 457um; Radiation Hardening: No; Military Standard: Not; ComponentLink1URL: https://datasheet.ciiva.com/9121/chpreztr-9121901.pdf?src-supplier=Avnet; ComponentLink1Description: https://datasheet.ciiva.com/9121/chpreztr-9121901.pdf?src-supplier=Avnet; ComponentLink2URL: https://datasheet.ciiva.com/14986/chpreztr-14986591.pdf?src-supplier=Digi-Key; ComponentLink2Description: https://datasheet.ciiva.com/14986/chpreztr-14986591.pdf?src-supplier=Digi-Key; ComponentLink3URL: https://datasheet.ciiva.com/5586/chpreztr-5586573.pdf?src-supplier=Mouser; ComponentLink3Description: https://datasheet.ciiva.com/5586/chpreztr-5586573.pdf?src-supplier=Mouser; Supplier Part Number 1: C203401
footprint CR1608-0603 (Chip Resistor; Body 1.6 x 0.8 mm (LxW typ))
pins: 1, 2

## RES 22K OHM 1% 1/8W 0805 SMD
designator R?, comment 22K
RES SMD 22K OHM 1% 1/8W 0805; Manufacturer: Panasonic Electronic Components; Manufacturer Part Number: ERJ-6ENF2202V; Power (Watts): 0.125W, 1/8W; Temperature Coefficient: ±100ppm/°C; Supplier 1: Digi-Key; RoHS: RoHS Compliant; Category: Resistors; Stock 1: 26406; Pricing 1: 1=0.1, 10=0.036, 25=0.0264, 50=0.02, 100=0.0148, 250=0.01124, 500=0.009, 1000=0.00663 (USD); Packaging: Cut Tape (CT); Part Status: Active; Resistance (Ohms): 22k; Tolerance: ±1%; Composition: Thick Film; Features: Automotive AEC-Q200; Operating Temperature: -55°C ~ 155°C; Package / Case: 0805 (2012 Metric); Supplier Device Package: 0805; Size / Dimension: 0.079" L x 0.049" W (2.00mm x 1.25mm); Height - Seated (Max): 0.028" (0.70mm); Failure Rate: -; ComponentLink1URL: https://industrial.panasonic.com/cdbs/www-data/pdf/RDA0000/AOA0000C283.pdf; ComponentLink1Description: https://industrial.panasonic.com/cdbs/www-data/pdf/RDA0000/AOA0000C283.pdf; Supplier Part Number 1: P22.0KCCT-ND
footprint CR2012-0805 (Chip Capacitor)
pins: 1, 2

## RES 22K OHM 1% 1/10W 0603 SMD
designator R?, comment 22K
RES SMD 22K OHM 1% 1/10W 0603; Manufacturer: Yageo; Manufacturer Part Number: RC0603FR-0722KL; Power (Watts): 0.1W, 1/10W; Temperature Coefficient: ±100ppm/°C; Supplier 1: Digi-Key; RoHS: RoHS Compliant; Category: Resistors; Stock 1: 1971619; Pricing 1: 1=0.1, 10=0.013, 25=0.0092, 50=0.007, 100=0.0052, 250=0.00396, 500=0.00316, 1000=0.00233 (USD); Packaging: Cut Tape (CT); Part Status: Active; Resistance (Ohms): 22k; Tolerance: ±1%; Composition: Thick Film; Features: Moisture Resistant; Operating Temperature: -55°C ~ 155°C; Package / Case: 0603 (1608 Metric); Supplier Device Package: 0603; Size / Dimension: 0.063" L x 0.031" W (1.60mm x 0.80mm); Height - Seated (Max): 0.022" (0.55mm); Failure Rate: -; ComponentLink1URL: http://www.yageo.com/documents/recent/PYu-RC_Group_51_RoHS_L_7.pdf; ComponentLink1Description: http://www.yageo.com/documents/recent/PYu-RC_Group_51_RoHS_L_7.pdf; Supplier Part Number 1: 311-22.0KHRCT-ND
footprint CR1608-0603 (Chip Resistor; Body 1.6 x 0.8 mm (LxW typ))
pins: 1, 2

## RES 22R OHM 1% 1/8W 0805 SMD
designator R?, comment 22R
RES SMD 22 OHM 1% 1/8W 0805; Manufacturer: Yageo; Manufacturer Part Number: RC0805FR-0722RL; Resistance (Ohms): 22; Power (Watts): 0.125W, 1/8W; Temperature Coefficient: ±100ppm/°C; Supplier 1: Digi-Key; RoHS: RoHS Compliant; Category: Resistors; Stock 1: 666127; Pricing 1: 1=0.1, 10=0.019, 25=0.0136, 50=0.0104, 100=0.0077, 250=0.00584, 500=0.00468, 1000=0.00345 (USD); Packaging: Cut Tape (CT); Part Status: Active; Tolerance: ±1%; Composition: Thick Film; Features: Moisture Resistant; Operating Temperature: -55°C ~ 155°C; Package / Case: 0805 (2012 Metric); Supplier Device Package: 0805; Size / Dimension: 0.079" L x 0.049" W (2.00mm x 1.25mm); Height - Seated (Max): 0.024" (0.60mm); Failure Rate: -; ComponentLink1URL: http://www.yageo.com/documents/recent/PYu-RC_Group_51_RoHS_L_6.pdf; ComponentLink1Description: http://www.yageo.com/documents/recent/PYu-RC_Group_51_RoHS_L_6.pdf; Supplier Part Number 1: 311-22.0CRCT-ND
footprint CR2012-0805 (Chip Capacitor)
pins: 1, 2

## RES 27K 1% 1/8W 0805 SMD
designator R?, comment 27K
RES SMD 27K OHM 1% 1/8W 0805; Manufacturer: KOA Speer; Manufacturer Part Number: RK73H2ATTD2702F; Power Rating: 125mW; Resistance: 27kR; Voltage Rating: 150V; Temperature Coefficient: 100ppm/°C; ComponentLink1URL: http://www.yageo.com/documents/recent/PYu-RC_Group_51_RoHS_L_04.pdf; ComponentLink1Description: http://www.yageo.com/documents/recent/PYu-RC_Group_51_RoHS_L_04.pdf; ComponentLink2URL: https://datasheet.ciiva.com/7866/549017-7866749.pdf?src-supplier=Element14; ComponentLink2Description: https://datasheet.ciiva.com/7866/549017-7866749.pdf?src-supplier=Element14; Supplier 1: Digi-Key; RoHS: Yes; Category: Chip SMD Resistors; Stock 1: 25750; Pricing 1: 1=0,10000, 10=0,03300, 100=0,01360, 1000=0,00612, 2500=0,00531 (USD); Case/Package: 0805; Number of Pins: 2; Case Code (Imperial): 0805; Case Code (Metric): 2012; Min Operating Temperature: -55°C; Max Operating Temperature: 155°C; Packaging: Tape and Reel; Package Quantity: 5000; Tolerance: 1%; Composition: Thick Film; Termination: SMD/SMT; Military Standard: Not; Length: 2mm; Height: 0.5mm; Width: 1.25mm; Depth: 1.25mm; Lead Free: Lead Free; Supplier Part Number 1: 2019-RK73H2ATTD2702FCT-ND
footprint CR2012-0805 (Chip Capacitor)
pins: 1, 2

## RES 27K 1% 1/8W 0805 SMD_1
designator R?, comment 27K
RES SMD 27K OHM 1% 1/8W 0805; Manufacturer: KOA Speer; Manufacturer Part Number: RK73H2ATTD2702F; Power Rating: 125mW; Resistance: 27kR; Voltage Rating: 150V; Temperature Coefficient: 100ppm/°C; ComponentLink1URL: http://www.yageo.com/documents/recent/PYu-RC_Group_51_RoHS_L_04.pdf; ComponentLink1Description: http://www.yageo.com/documents/recent/PYu-RC_Group_51_RoHS_L_04.pdf; ComponentLink2URL: https://datasheet.ciiva.com/7866/549017-7866749.pdf?src-supplier=Element14; ComponentLink2Description: https://datasheet.ciiva.com/7866/549017-7866749.pdf?src-supplier=Element14; Supplier 1: Digi-Key; RoHS: Yes; Category: Chip SMD Resistors; Stock 1: 25750; Pricing 1: 1=0,10000, 10=0,03300, 100=0,01360, 1000=0,00612, 2500=0,00531 (USD); Case/Package: 0805; Number of Pins: 2; Case Code (Imperial): 0805; Case Code (Metric): 2012; Min Operating Temperature: -55°C; Max Operating Temperature: 155°C; Packaging: Tape and Reel; Package Quantity: 5000; Tolerance: 1%; Composition: Thick Film; Termination: SMD/SMT; Military Standard: Not; Length: 2mm; Height: 0.5mm; Width: 1.25mm; Depth: 1.25mm; Lead Free: Lead Free; Supplier Part Number 1: 2019-RK73H2ATTD2702FCT-ND
footprint CR2012-0805 (Chip Capacitor)
pins: 1, 2

## RES 30.9K OHM 1% 1/8W 0805 SMD
designator R?, comment 30.9K  Supplier Part Number 1: 311-30.9KCRCT-ND
RES SMD 30.9K OHM 1% 1/8W 0805; Manufacturer: Yageo; Manufacturer Part Number: RC0805FR-0730K9L; Voltage Rating (DC): 150V; Resistance: 30.9kR; Power Rating: 125mW; Temperature Coefficient: 100ppm/°C; Supplier 1: Digi-Key; RoHS: Yes; Category: Chip SMD Resistors; Stock 1: 197698; Pricing 1: 1=0,10000, 10=0,04000, 100=0,01630, 1000=0,00731, 2500=0,00635 (USD); Case/Package: 0805; Case Code (Imperial): 0805; Case Code (Metric): 2012; Contact Plating: Tin,Matte; Min Operating Temperature: -55°C; Max Operating Temperature: 155°C; Tolerance: 1%; Packaging: Tape and Reel; Voltage Rating: 150V; Composition: Thick Film; Termination: SMD/SMT; Military Standard: Not; Length: 2mm; Height: 0.5mm; Width: 1.25mm; Depth: 1.25mm; Radiation Hardening: No; Lead Free: Lead Free; ComponentLink1URL: http://www.mouser.com/ds/2/447/Yageo_08112016_RC0805-968729.pdf?src-supplier=Mouser; ComponentLink1Description: http://www.mouser.com/ds/2/447/Yageo_08112016_RC0805-968729.pdf?src-supplier=Mouser; ComponentLink2URL: http://components.arrow.com/part/dataview/0323_03541722?src-supplier=Arrow+Europe; ComponentLink2Description: http://components.arrow.com/part/dataview/0323_03541722?src-supplier=Arrow+Europe; ComponentLink3URL: http://www.yageo.ru/pdf/RC0805.pdf?src-supplier=Future+Electronics; ComponentLink3Description: http://www.yageo.ru/pdf/RC0805.pdf?src-supplier=Future+Electronics; ComponentLink4URL: http://www.yageo.com/documents/recent/PYu-RC_Group_51_RoHS_L_9.pdf?src-supplier=Digi-Key; ComponentLink4Description: http://www.yageo.com/documents/recent/PYu-RC_Group_51_RoHS_L_9.pdf?src-supplier=Digi-Key; ComponentLink5URL: http://www.yageo.com/documents/recent/PYu-RC_Group_51_RoHS_L_2.pdf?src-supplier=Avnet; ComponentLink5Description: http://www.yageo.com/documents/recent/PYu-RC_Group_51_RoHS_L_2.pdf?src-supplier=Avnet; ComponentLink6URL: http://www.yageo.com/documents/recent/PYu-RC0805_51_RoHS_L-(4).pdf?src-supplier=Avnet+Europe; ComponentLink6Description: http://www.yageo.com/documents/recent/PYu-RC0805_51_RoHS_L-(4).pdf?src-supplier=Avnet+Europe
footprint CR2012-0805 (Chip Capacitor)
pins: 1, 2

## RES 32.8K OHM 0.1% 1/8W 0805 SMD
designator R?, comment 32.8K
RES SMD 32.8K OHM 0.1% 1/8W 0805; Manufacturer: Vishay Dale; Manufacturer Part Number: TNPW080532K8BEEN; Max Power Dissipation: 125mW; Temperature Coefficient: 25ppm/°C; Resistance: 32.8kR; ComponentLink1URL: http://rohmfs.rohm.com/en/products/databook/datasheet/passive/resistor/chip_resistor/mcr_g.pdf; ComponentLink1Description: http://rohmfs.rohm.com/en/products/databook/datasheet/passive/resistor/chip_resistor/mcr_g.pdf; ComponentLink2URL: https://datasheet.ciiva.com/17484/rc0805-17484039.pdf?src-supplier=Future+Electronics; ComponentLink2Description: https://datasheet.ciiva.com/17484/rc0805-17484039.pdf?src-supplier=Future+Electronics; Supplier 1: Digi-Key; RoHS: Yes; Category: Chip SMD Resistors; Stock 1: 121; Pricing 1: 1=0,89000, 10=0,78400, 100=0,56930 (USD); Case/Package: 0805; Case Code (Metric): 2012; Case Code (Imperial): 0805; Min Operating Temperature: -55°C; Max Operating Temperature: 125°C; Composition: Thin Film; Number of Terminations: 2; Package Quantity: 1000; Packaging: Tape and Reel; Tolerance: 0.1%; Features: Moisture Resistant,Automotive AEC-Q200,Anti-Sulfur; Length: 0.079inch; Height: 0.022inch; Width: 0.049inch; ComponentLink3URL: https://datasheet.ciiva.com/18603/tnpw-e3-18603435.pdf?src-supplier=Digi-Key; ComponentLink3Description: https://datasheet.ciiva.com/18603/tnpw-e3-18603435.pdf?src-supplier=Digi-Key; ComponentLink4URL: https://datasheet.ciiva.com/18603/tnpw-e3-18603436.pdf?src-supplier=Digi-Key; ComponentLink4Description: https://datasheet.ciiva.com/18603/tnpw-e3-18603436.pdf?src-supplier=Digi-Key; ComponentLink5URL: https://datasheet.ciiva.com/18603/tnpw-e3-18603434.pdf?src-supplier=Digi-Key; ComponentLink5Description: https://datasheet.ciiva.com/18603/tnpw-e3-18603434.pdf?src-supplier=Digi-Key; Supplier Part Number 1: 541-1895-1-ND
footprint CR2012-0805 (Chip Capacitor)
footprint CR2012-0805 (Chip Capacitor)
pins: 1, 2

## RES 32K8 OHM 0.1% 1/8W 0805 SMD
designator R?, comment 32K8 0.1%
RES SMD 32.8K OHM 0.1% 1/8W 0805; Manufacturer: Vishay Dale; Manufacturer Part Number: TNPW080532K8BEEN; Power (Watts): 0.125W, 1/8W; Temperature Coefficient: ±25ppm/°C; Supplier 1: Digi-Key; RoHS: RoHS Compliant; Category: Resistors; Stock 1: 1202; Pricing 1: 1=0.96, 10=0.835, 25=0.7336, 50=0.6704, 100=0.5819, 250=0.506, 500=0.41998 (USD); Packaging: Cut Tape (CT); Part Status: Active; Resistance (Ohms): 32.8k; Tolerance: ±0.1%; Composition: Thin Film; Features: Anti-Sulfur, Automotive AEC-Q200, Moisture Resistant; Operating Temperature: -55°C ~ 125°C; Package / Case: 0805 (2012 Metric); Supplier Device Package: 0805; Size / Dimension: 0.079" L x 0.049" W (2.00mm x 1.25mm); Height: 0.022" (0.55mm); Number of Terminations: 2; ComponentLink1URL: http://www.vishay.com/docs/28758/tnpw_e3.pdf; ComponentLink1Description: http://www.vishay.com/docs/28758/tnpw_e3.pdf; Supplier Part Number 1: 541-1895-1-ND
footprint CR2012-0805 (Chip Capacitor)
pins: 1, 2

## RES 33K OHM 1% 1/10W 0603 SMD
designator R?, comment 33K
RES SMD 33K OHM 1% 1/10W 0603; Manufacturer: Yageo; Manufacturer Part Number: RC0603FR-0733KL; Power (Watts): 0.1W, 1/10W; Temperature Coefficient: ±100ppm/°C; Supplier 1: Digi-Key; RoHS: RoHS Compliant; Category: Resistors; Stock 1: 611289; Pricing 1: 1=0.1, 10=0.013, 25=0.0092, 50=0.007, 100=0.0052, 250=0.00396, 500=0.00316, 1000=0.00233 (USD); Packaging: Cut Tape (CT); Part Status: Active; Resistance (Ohms): 33k; Tolerance: ±1%; Composition: Thick Film; Features: Moisture Resistant; Operating Temperature: -55°C ~ 155°C; Package / Case: 0603 (1608 Metric); Supplier Device Package: 0603; Size / Dimension: 0.063" L x 0.031" W (1.60mm x 0.80mm); Height - Seated (Max): 0.022" (0.55mm); Failure Rate: -; ComponentLink1URL: http://www.yageo.com/documents/recent/PYu-RC_Group_51_RoHS_L_7.pdf; ComponentLink1Description: http://www.yageo.com/documents/recent/PYu-RC_Group_51_RoHS_L_7.pdf; Supplier Part Number 1: 311-33.0KHRCT-ND
footprint CR1608-0603 (Chip Resistor; Body 1.6 x 0.8 mm (LxW typ))
pins: 1, 2

## RES 33K OHM 5% 1/8W 0805 SMD
designator R?, comment 33K
RES SMD 33K OHM 5% 1/8W 0805; Manufacturer: Uniroyal; Manufacturer Part Number: 0805W8J0333T5E; Power (Watts): 0.125W, 1/8W; Temperature Coefficient: ±200ppm/°C; Supplier 1: Digi-Key; RoHS: RoHS Compliant; Category: Resistors; Stock 1: 8707; Pricing 1: 1=0.1, 10=0.015, 25=0.0112, 50=0.0084, 100=0.0063, 250=0.00476, 500=0.00382, 1000=0.00281 (USD); Packaging: Cut Tape (CT); Part Status: Active; Resistance (Ohms): 33k; Tolerance: ±5%; Composition: Thick Film; Features: -; Operating Temperature: -55°C ~ 155°C; Package / Case: 0805 (2012 Metric); Supplier Device Package: 0805; Size / Dimension: 0.079" L x 0.049" W (2.00mm x 1.25mm); Height - Seated (Max): 0.026" (0.65mm); Failure Rate: -; ComponentLink1URL: http://rohmfs.rohm.com/en/products/databook/datasheet/passive/resistor/chip_resistor/mcr_g.pdf; ComponentLink1Description: http://rohmfs.rohm.com/en/products/databook/datasheet/passive/resistor/chip_resistor/mcr_g.pdf; Supplier Part Number 1: RHM33KCPCT-ND; Supplier 2: LCSC; Supplier Part Number 2: C25630
footprint CR2012-0805 (Chip Capacitor)
pins: 1, 2